# Altium schematic symbol library Chamber.Schlib: 1 symbol
Pins are listed as number, name and electrical type; pins without a type are passive.

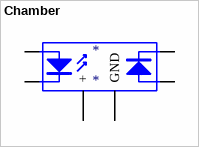
[diagram p0: symbol Chamber]

## Chamber
designator *
pins: 1 A "Anode", 2 K "Cathode", 3 A "Emitter", 4 K "Collector", 5 +, 6 GND